# EAGLE library part SWITCH-DPDT (library BiomedicalImagingLibrary)
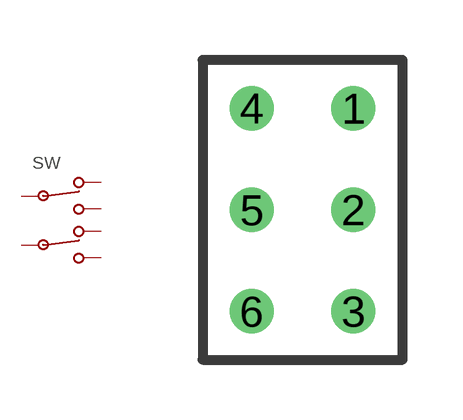
[diagram p12: symbol with the pads of SWITCH-G13AH; footprint SWITCH-G13AH]

Designator prefix SW

## SWITCH-DPDT  [SWITCH-G13AH]
1  1  pas
2  2  pas
3  3  pas
4  4  pas
5  5  pas
6  6  pas

## Footprint SWITCH-G13AH (pad centres in mm)
drill 0.6: 1 1.27,2.54; 2 1.27,0; 3 1.27,-2.54; 4 -1.27,2.54; 5 -1.27,0; 6 -1.27,-2.54